# EAGLE library part 50MILHEADERS (library mrone)
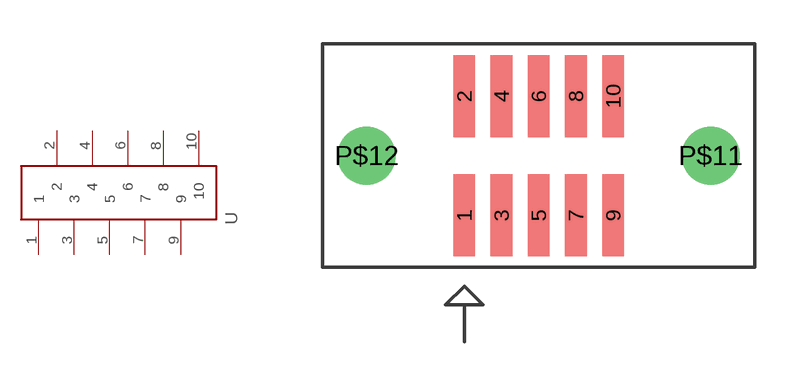
[diagram p11: symbol with the pads of 105-01-L-D-SM-LC; footprint 105-01-L-D-SM-LC]

Designator prefix -

## 50MILHEADERS  [105-01-L-D-SM-LC]
1  1
2  2
3  3
4  4
5  5
6  6
7  7
8  8
9  9
10  10

## Footprint 105-01-L-D-SM-LC (pad centres in mm)
smd 0.737 x 2.794: 1 -2.54,-2.032; 2 -2.54,2.032; 3 -1.27,-2.032; 4 -1.27,2.032; 5 0,-2.032; 6 0,2.032; 7 1.27,-2.032; 8 1.27,2.032; 9 2.54,-2.032; 10 2.54,2.032
drill 1.321 round: P$11 5.867,0; P$12 -5.867,0